# Altium footprint library con-molex-micro-fit-3_0.PCBLIB: 194 footprints (part 11 of 13)
Each footprint in its own frame and in the unit in brackets; x right, y up, seen from the top. Pads: shape width x height; smd on the part's side, far side on the other; paste and mask are expansions set on the pad; w line width, h text height; cw(c..) or ccw(c..) is an arc to the next point about the centre after c.
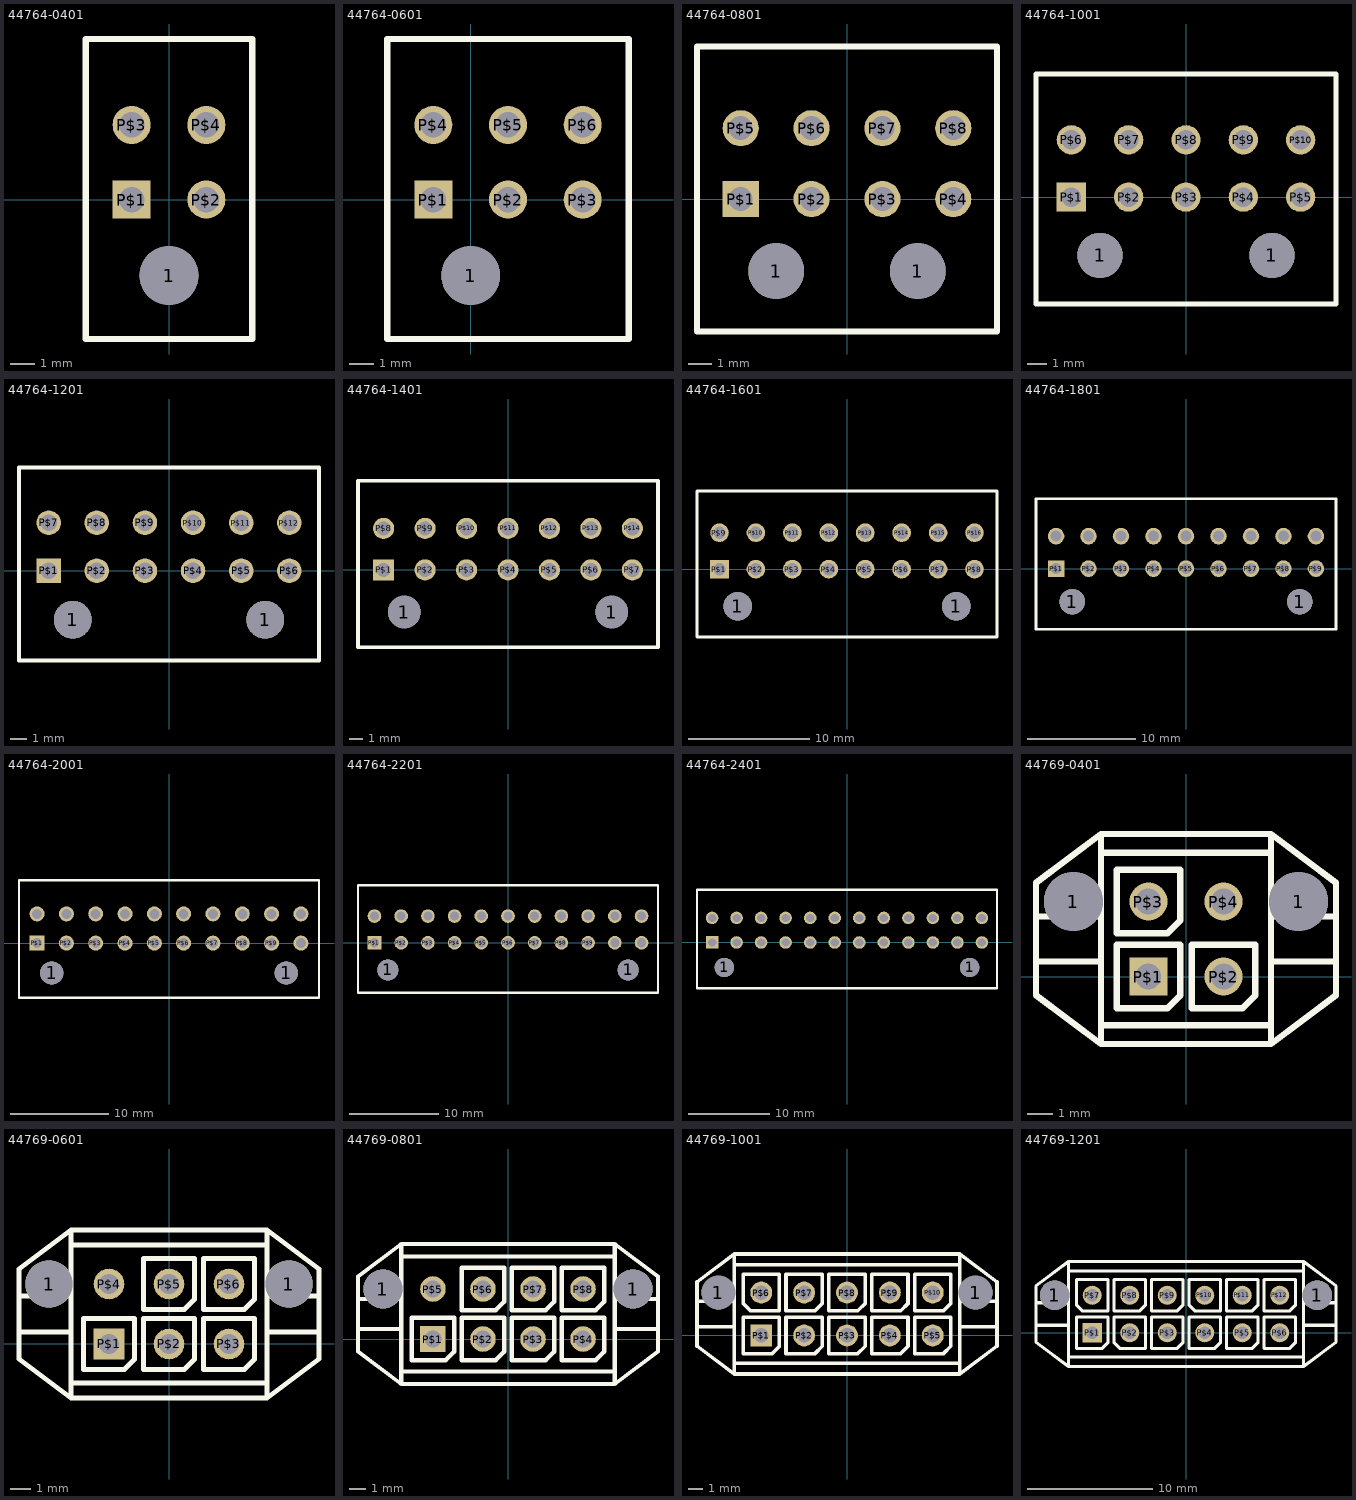
[diagram p10: the footprints below, top view; thin cyan lines are the x and y axes]

## 44764-0401 [mm]
pads (5):
  round 2.36 hole 2.36: 1(0,-3.05)
  rect 1.53x1.53 hole 1.02: P$1(-1.5,0)
  round 1.53 hole 1.02: P$2(1.5,0) P$3(-1.5,3) P$4(1.5,3)
Top Overlay:
  lines w0.254: -3.35,-5.6 3.35,-5.6 3.35,6.45 -3.35,6.45 -3.35,-5.6

## 44764-0601 [mm]
pads (7):
  round 2.36 hole 2.36: 1(0,-3.05)
  rect 1.53x1.53 hole 1.02: P$1(-1.5,0)
  round 1.53 hole 1.02: P$2(1.5,0) P$3(4.5,0) P$4(-1.5,3) P$5(1.5,3) P$6(4.5,3)
Top Overlay:
  lines w0.254: -3.35,-5.6 6.35,-5.6 6.35,6.45 -3.35,6.45 -3.35,-5.6

## 44764-0801 [mm]
pads (10):
  round 2.36 hole 2.36: 1(-3,-3.05) 1(3,-3.05)
  rect 1.53x1.53 hole 1.02: P$1(-4.5,0)
  round 1.53 hole 1.02: P$2(-1.5,0) P$3(1.5,0) P$4(4.5,0) P$5(-4.5,3) P$6(-1.5,3) P$7(1.5,3) P$8(4.5,3)
Top Overlay:
  lines w0.254: -6.35,-5.6 6.35,-5.6 6.35,6.45 -6.35,6.45 -6.35,-5.6

## 44764-1001 [mm]
pads (12):
  round 2.36 hole 2.36: 1(-4.5,-3.05) 1(4.5,-3.05)
  rect 1.53x1.53 hole 1.02: P$1(-6,0)
  round 1.53 hole 1.02: P$2(-3,0) P$3(0,0) P$4(3,0) P$5(6,0) P$6(-6,3) P$7(-3,3) P$8(0,3) P$9(3,3) P$10(6,3)
Top Overlay:
  lines w0.254: -7.85,-5.6 7.85,-5.6 7.85,6.45 -7.85,6.45 -7.85,-5.6

## 44764-1201 [mm]
pads (14):
  round 2.36 hole 2.36: 1(-6,-3.05) 1(6,-3.05)
  rect 1.53x1.53 hole 1.02: P$1(-7.5,0)
  round 1.53 hole 1.02: P$2(-4.5,0) P$3(-1.5,0) P$4(1.5,0) P$5(4.5,0) P$6(7.5,0) P$7(-7.5,3) P$8(-4.5,3) P$9(-1.5,3) P$10(1.5,3) P$11(4.5,3) P$12(7.5,3)
Top Overlay:
  lines w0.254: -9.35,-5.6 9.35,-5.6 9.35,6.45 -9.35,6.45 -9.35,-5.6

## 44764-1401 [mm]
pads (16):
  round 2.36 hole 2.36: 1(-7.5,-3.05) 1(7.5,-3.05)
  rect 1.53x1.53 hole 1.02: P$1(-9,0)
  round 1.53 hole 1.02: P$2(-6,0) P$3(-3,0) P$4(0,0) P$5(3,0) P$6(6,0) P$7(9,0) P$8(-9,3) P$9(-6,3) P$10(-3,3) P$11(0,3) P$12(3,3) P$13(6,3) P$14(9,3)
Top Overlay:
  lines w0.254: -10.85,-5.6 10.85,-5.6 10.85,6.45 -10.85,6.45 -10.85,-5.6

## 44764-1601 [mm]
pads (18):
  round 2.36 hole 2.36: 1(-9,-3.05) 1(9,-3.05)
  rect 1.53x1.53 hole 1.02: P$1(-10.5,0)
  round 1.53 hole 1.02: P$2(-7.5,0) P$3(-4.5,0) P$4(-1.5,0) P$5(1.5,0) P$6(4.5,0) P$7(7.5,0) P$8(10.5,0) P$9(-10.5,3) P$10(-7.5,3) P$11(-4.5,3) P$12(-1.5,3) P$13(1.5,3) P$14(4.5,3) P$15(7.5,3) P$16(10.5,3)
Top Overlay:
  lines w0.254: -12.35,-5.6 12.35,-5.6 12.35,6.45 -12.35,6.45 -12.35,-5.6

## 44764-1801 [mm]
pads (20):
  round 2.36 hole 2.36: 1(-10.5,-3.05) 1(10.5,-3.05)
  rect 1.53x1.53 hole 1.02: P$1(-12,0)
  round 1.53 hole 1.02: P$2(-9,0) P$3(-6,0) P$4(-3,0) P$5(0,0) P$6(3,0) P$7(6,0) P$8(9,0) P$9(12,0) P$10(-12,3) P$11(-9,3) P$12(-6,3) P$13(-3,3) P$14(0,3) P$15(3,3) P$16(6,3) P$17(9,3) P$18(12,3)
Top Overlay:
  lines w0.254: -13.85,-5.6 13.85,-5.6 13.85,6.45 -13.85,6.45 -13.85,-5.6

## 44764-2001 [mm]
pads (22):
  round 2.36 hole 2.36: 1(-12,-3.05) 1(12,-3.05)
  rect 1.53x1.53 hole 1.02: P$1(-13.5,0)
  round 1.53 hole 1.02: P$2(-10.5,0) P$3(-7.5,0) P$4(-4.5,0) P$5(-1.5,0) P$6(1.5,0) P$7(4.5,0) P$8(7.5,0) P$9(10.5,0) P$10(13.5,0) P$11(-13.5,3) P$12(-10.5,3) P$13(-7.5,3) P$14(-4.5,3) P$15(-1.5,3) P$16(1.5,3) P$17(4.5,3) P$18(7.5,3) P$19(10.5,3) P$20(13.5,3)
Top Overlay:
  lines w0.254: -15.35,-5.6 15.35,-5.6 15.35,6.45 -15.35,6.45 -15.35,-5.6

## 44764-2201 [mm]
pads (24):
  round 2.36 hole 2.36: 1(-13.5,-3.05) 1(13.5,-3.05)
  rect 1.53x1.53 hole 1.02: P$1(-15,0)
  round 1.53 hole 1.02: P$2(-12,0) P$3(-9,0) P$4(-6,0) P$5(-3,0) P$6(0,0) P$7(3,0) P$8(6,0) P$9(9,0) P$10(12,0) P$11(15,0) P$12(-15,3) P$13(-12,3) P$14(-9,3) P$15(-6,3) P$16(-3,3) P$17(0,3) P$18(3,3) P$19(6,3) P$20(9,3) P$21(12,3) P$22(15,3)
Top Overlay:
  lines w0.254: -16.85,-5.6 16.85,-5.6 16.85,6.45 -16.85,6.45 -16.85,-5.6

## 44764-2401 [mm]
pads (26):
  round 2.36 hole 2.36: 1(-15,-3.05) 1(15,-3.05)
  rect 1.53x1.53 hole 1.02: P$1(-16.5,0)
  round 1.53 hole 1.02: P$2(-13.5,0) P$3(-10.5,0) P$4(-7.5,0) P$5(-4.5,0) P$6(-1.5,0) P$7(1.5,0) P$8(4.5,0) P$9(7.5,0) P$10(10.5,0) P$11(13.5,0) P$12(16.5,0) P$13(-16.5,3) P$14(-13.5,3) P$15(-10.5,3) P$16(-7.5,3) P$17(-4.5,3) P$18(-1.5,3) P$19(1.5,3) P$20(4.5,3) P$21(7.5,3) P$22(10.5,3) P$23(13.5,3) P$24(16.5,3)
Top Overlay:
  lines w0.254: -18.35,-5.6 18.35,-5.6 18.35,6.45 -18.35,6.45 -18.35,-5.6

## 44769-0401 [mm]
pads (6):
  round 2.36 hole 2.36: 1(-4.5,3) 1(4.5,3)
  rect 1.53x1.53 hole 1.02: P$1(-1.5,0)
  round 1.53 hole 1.02: P$2(1.5,0) P$3(-1.5,3) P$4(1.5,3)
Top Overlay:
  lines w0.254: -6,0.6 -6,-0.75 -3.4,-2.7 ; -6,0.6 -6,2.4 ; -6,0.6 -3.4,0.6 ; -6,2.4 -6,3.75 -3.4,5.7 ; -6,2.4 -3.4,2.4 ; -3.4,-2.7 3.4,-2.7 ; -3.4,-2.7 -3.4,-1.95 ; -3.4,-1.95 -3.4,0.6 ; -3.4,-1.95 3.4,-1.95 ; -3.4,0.6 -3.4,2.4 ; -3.4,2.4 -3.4,4.95 ; -3.4,4.95 -3.4,5.7 ; -3.4,4.95 3.4,4.95 ; -3.4,5.7 3.4,5.7 ; 3.4,-2.7 6,-0.75 6,0.6 ; 3.4,-2.7 3.4,-1.95 ; 3.4,-1.95 3.4,0.6 ; 3.4,0.6 3.4,2.4 ; 3.4,0.6 6,0.6 ; 3.4,2.4 3.4,4.95 ; 3.4,2.4 6,2.4 ; 3.4,4.95 3.4,5.7 ; 3.4,5.7 6,3.75 6,2.4 ; 6,0.6 6,2.4 ; -2.77,-1.27 -2.77,1.27 -0.23,1.27 -0.23,-0.762 -0.738,-1.27 -2.77,-1.27 ; -2.77,1.73 -2.77,4.27 -0.23,4.27 -0.23,2.238 -0.738,1.73 -2.77,1.73 ; 0.23,-1.27 0.23,1.27 2.77,1.27 2.77,-0.762 2.262,-1.27 0.23,-1.27
Bottom Overlay:
  lines w0.254: 0.23,2.238 0.23,4.27 2.77,4.27 2.77,1.73 0.738,1.73 0.23,2.238

## 44769-0601 [mm]
pads (8):
  round 2.36 hole 2.36: 1(-6,3) 1(6,3)
  rect 1.53x1.53 hole 1.02: P$1(-3,0)
  round 1.53 hole 1.02: P$2(0,0) P$3(3,0) P$4(-3,3) P$5(0,3) P$6(3,3)
Top Overlay:
  lines w0.254: -7.5,0.6 -7.5,-0.75 -4.9,-2.7 ; -7.5,0.6 -7.5,2.4 ; -7.5,0.6 -4.9,0.6 ; -7.5,2.4 -7.5,3.75 -4.9,5.7 ; -7.5,2.4 -4.9,2.4 ; -4.9,-2.7 4.9,-2.7 ; -4.9,-2.7 -4.9,-1.95 ; -4.9,-1.95 -4.9,0.6 ; -4.9,-1.95 4.9,-1.95 ; -4.9,0.6 -4.9,2.4 ; -4.9,2.4 -4.9,4.95 ; -4.9,4.95 -4.9,5.7 ; -4.9,4.95 4.9,4.95 ; -4.9,5.7 4.9,5.7 ; 4.9,-2.7 7.5,-0.75 7.5,0.6 ; 4.9,-2.7 4.9,-1.95 ; 4.9,-1.95 4.9,0.6 ; 4.9,0.6 4.9,2.4 ; 4.9,0.6 7.5,0.6 ; 4.9,2.4 4.9,4.95 ; 4.9,2.4 7.5,2.4 ; 4.9,4.95 4.9,5.7 ; 4.9,5.7 7.5,3.75 7.5,2.4 ; 7.5,0.6 7.5,2.4 ; -4.27,-1.27 -4.27,1.27 -1.73,1.27 -1.73,-0.762 -2.238,-1.27 -4.27,-1.27 ; -1.27,-1.27 -1.27,1.27 1.27,1.27 1.27,-0.762 0.762,-1.27 -1.27,-1.27 ; -1.27,1.73 -1.27,4.27 1.27,4.27 1.27,2.238 0.762,1.73 -1.27,1.73 ; 1.73,-1.27 1.73,1.27 4.27,1.27 4.27,-0.762 3.762,-1.27 1.73,-1.27 ; 1.73,1.73 1.73,4.27 4.27,4.27 4.27,2.238 3.762,1.73 1.73,1.73
Bottom Overlay:
  lines w0.254: -4.27,2.238 -4.27,4.27 -1.73,4.27 -1.73,1.73 -3.762,1.73 -4.27,2.238

## 44769-0801 [mm]
pads (10):
  round 2.36 hole 2.36: 1(-7.5,3) 1(7.5,3)
  rect 1.53x1.53 hole 1.02: P$1(-4.5,0)
  round 1.53 hole 1.02: P$2(-1.5,0) P$3(1.5,0) P$4(4.5,0) P$5(-4.5,3) P$6(-1.5,3) P$7(1.5,3) P$8(4.5,3)
Top Overlay:
  lines w0.254: -9,0.6 -9,-0.75 -6.4,-2.7 ; -9,0.6 -9,2.4 ; -9,0.6 -6.4,0.6 ; -9,2.4 -9,3.75 -6.4,5.7 ; -9,2.4 -6.4,2.4 ; -6.4,-2.7 6.4,-2.7 ; -6.4,-2.7 -6.4,-1.95 ; -6.4,-1.95 -6.4,0.6 ; -6.4,-1.95 6.4,-1.95 ; -6.4,0.6 -6.4,2.4 ; -6.4,2.4 -6.4,4.95 ; -6.4,4.95 -6.4,5.7 ; -6.4,4.95 6.4,4.95 ; -6.4,5.7 6.4,5.7 ; 6.4,-2.7 9,-0.75 9,0.6 ; 6.4,-2.7 6.4,-1.95 ; 6.4,-1.95 6.4,0.6 ; 6.4,0.6 6.4,2.4 ; 6.4,0.6 9,0.6 ; 6.4,2.4 6.4,4.95 ; 6.4,2.4 9,2.4 ; 6.4,4.95 6.4,5.7 ; 6.4,5.7 9,3.75 9,2.4 ; 9,0.6 9,2.4 ; -5.77,-1.27 -5.77,1.27 -3.23,1.27 -3.23,-0.762 -3.738,-1.27 -5.77,-1.27 ; -2.77,-1.27 -2.77,1.27 -0.23,1.27 -0.23,-0.762 -0.738,-1.27 -2.77,-1.27 ; -2.77,1.73 -2.77,4.27 -0.23,4.27 -0.23,2.238 -0.738,1.73 -2.77,1.73 ; 0.23,-1.27 0.23,1.27 2.77,1.27 2.77,-0.762 2.262,-1.27 0.23,-1.27 ; 0.23,1.73 0.23,4.27 2.77,4.27 2.77,2.238 2.262,1.73 0.23,1.73 ; 3.23,-1.27 3.23,1.27 5.77,1.27 5.77,-0.762 5.262,-1.27 3.23,-1.27 ; 3.23,1.73 3.23,4.27 5.77,4.27 5.77,2.238 5.262,1.73 3.23,1.73
Bottom Overlay:
  lines w0.254: -5.77,2.238 -5.77,4.27 -3.23,4.27 -3.23,1.73 -5.262,1.73 -5.77,2.238

## 44769-1001 [mm]
pads (12):
  round 2.36 hole 2.36: 1(-9,3) 1(9,3)
  rect 1.53x1.53 hole 1.02: P$1(-6,0)
  round 1.53 hole 1.02: P$2(-3,0) P$3(0,0) P$4(3,0) P$5(6,0) P$6(-6,3) P$7(-3,3) P$8(0,3) P$9(3,3) P$10(6,3)
Top Overlay:
  lines w0.254: -10.5,0.6 -10.5,-0.75 -7.9,-2.7 ; -10.5,0.6 -10.5,2.4 ; -10.5,0.6 -7.9,0.6 ; -10.5,2.4 -10.5,3.75 -7.9,5.7 ; -10.5,2.4 -7.9,2.4 ; -7.9,-2.7 7.9,-2.7 ; -7.9,-2.7 -7.9,-1.95 ; -7.9,-1.95 -7.9,0.6 ; -7.9,-1.95 7.9,-1.95 ; -7.9,0.6 -7.9,2.4 ; -7.9,2.4 -7.9,4.95 ; -7.9,4.95 -7.9,5.7 ; -7.9,4.95 7.9,4.95 ; -7.9,5.7 7.9,5.7 ; 7.9,-2.7 10.5,-0.75 10.5,0.6 ; 7.9,-2.7 7.9,-1.95 ; 7.9,-1.95 7.9,0.6 ; 7.9,0.6 7.9,2.4 ; 7.9,0.6 10.5,0.6 ; 7.9,2.4 7.9,4.95 ; 7.9,2.4 10.5,2.4 ; 7.9,4.95 7.9,5.7 ; 7.9,5.7 10.5,3.75 10.5,2.4 ; 10.5,0.6 10.5,2.4 ; -7.27,-1.27 -7.27,1.27 -4.73,1.27 -4.73,-0.762 -5.238,-1.27 -7.27,-1.27 ; -7.27,2.238 -7.27,4.27 -4.73,4.27 -4.73,1.73 -6.762,1.73 -7.27,2.238 ; -4.27,-1.27 -4.27,1.27 -1.73,1.27 -1.73,-0.762 -2.238,-1.27 -4.27,-1.27 ; -4.27,1.73 -4.27,4.27 -1.73,4.27 -1.73,2.238 -2.238,1.73 -4.27,1.73 ; -1.27,-1.27 -1.27,1.27 1.27,1.27 1.27,-0.762 0.762,-1.27 -1.27,-1.27 ; -1.27,1.73 -1.27,4.27 1.27,4.27 1.27,2.238 0.762,1.73 -1.27,1.73 ; 1.73,-1.27 1.73,1.27 4.27,1.27 4.27,-0.762 3.762,-1.27 1.73,-1.27 ; 1.73,1.73 1.73,4.27 4.27,4.27 4.27,2.238 3.762,1.73 1.73,1.73 ; 4.73,-1.27 4.73,1.27 7.27,1.27 7.27,-0.762 6.762,-1.27 4.73,-1.27 ; 4.73,1.73 4.73,4.27 7.27,4.27 7.27,2.238 6.762,1.73 4.73,1.73

## 44769-1201 [mm]
pads (14):
  round 2.36 hole 2.36: 1(-10.5,3) 1(10.5,3)
  rect 1.53x1.53 hole 1.02: P$1(-7.5,0)
  round 1.53 hole 1.02: P$2(-4.5,0) P$3(-1.5,0) P$4(1.5,0) P$5(4.5,0) P$6(7.5,0) P$7(-7.5,3) P$8(-4.5,3) P$9(-1.5,3) P$10(1.5,3) P$11(4.5,3) P$12(7.5,3)
Top Overlay:
  lines w0.254: -12,0.6 -12,-0.75 -9.4,-2.7 ; -12,0.6 -12,2.4 ; -12,0.6 -9.4,0.6 ; -12,2.4 -12,3.75 -9.4,5.7 ; -12,2.4 -9.4,2.4 ; -9.4,-2.7 9.4,-2.7 ; -9.4,-2.7 -9.4,-1.95 ; -9.4,-1.95 -9.4,0.6 ; -9.4,-1.95 9.4,-1.95 ; -9.4,0.6 -9.4,2.4 ; -9.4,2.4 -9.4,4.95 ; -9.4,4.95 -9.4,5.7 ; -9.4,4.95 9.4,4.95 ; -9.4,5.7 9.4,5.7 ; 9.4,-2.7 12,-0.75 12,0.6 ; 9.4,-2.7 9.4,-1.95 ; 9.4,-1.95 9.4,0.6 ; 9.4,0.6 9.4,2.4 ; 9.4,0.6 12,0.6 ; 9.4,2.4 9.4,4.95 ; 9.4,2.4 12,2.4 ; 9.4,4.95 9.4,5.7 ; 9.4,5.7 12,3.75 12,2.4 ; 12,0.6 12,2.4 ; -8.77,-1.27 -8.77,1.27 -6.23,1.27 -6.23,-0.762 -6.738,-1.27 -8.77,-1.27 ; -8.77,2.238 -8.77,4.27 -6.23,4.27 -6.23,1.73 -8.262,1.73 -8.77,2.238 ; -5.77,-0.762 -5.77,1.27 -3.23,1.27 -3.23,-1.27 -5.262,-1.27 -5.77,-0.762 ; -5.77,1.73 -5.77,4.27 -3.23,4.27 -3.23,2.238 -3.738,1.73 -5.77,1.73 ; -2.77,-1.27 -2.77,1.27 -0.23,1.27 -0.23,-0.762 -0.738,-1.27 -2.77,-1.27 ; -2.77,1.73 -2.77,4.27 -0.23,4.27 -0.23,2.238 -0.738,1.73 -2.77,1.73 ; 0.23,-1.27 0.23,1.27 2.77,1.27 2.77,-0.762 2.262,-1.27 0.23,-1.27 ; 0.23,2.238 0.23,4.27 2.77,4.27 2.77,1.73 0.738,1.73 0.23,2.238 ; 3.23,-1.27 3.23,1.27 5.77,1.27 5.77,-0.762 5.262,-1.27 3.23,-1.27 ; 3.23,1.73 3.23,4.27 5.77,4.27 5.77,2.238 5.262,1.73 3.23,1.73 ; 6.23,-1.27 6.23,1.27 8.77,1.27 8.77,-0.762 8.262,-1.27 6.23,-1.27 ; 6.23,1.73 6.23,4.27 8.77,4.27 8.77,2.238 8.262,1.73 6.23,1.73